# EAGLE library part WEMOS-D1-MINI (library vinorodrigues-dev-brds)
WEMOS D1 mini: Mini Wi-Fi Board based on ESP-8266 device More details can be found here: https://www.wemos.cc/product/d1-mini.html
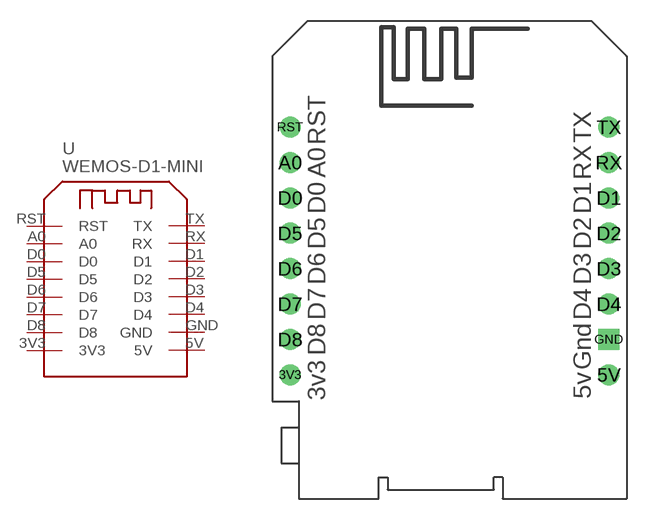
[diagram p2: symbol with the pads of WEMOS-D1-MINI; footprint WEMOS-D1-MINI]

Designator prefix -

## WEMOS-D1-MINI  [WEMOS-D1-MINI]
3V3  3V3  pwr
5V  5V  pwr
A0  A0
D0  D0
D1  D1
D2  D2
D3  D3
D4  D4
D5  D5
D6  D6
D7  D7
D8  D8
GND  GND  pwr
RST  RST
RX  RX
TX  TX

## Footprint WEMOS-D1-MINI (pad centres in mm)
WEMOS D1 mini: Mini Wi-Fi Board based on ESP-8266 device
drill 1: 3V3 -11.43,-8.89; 5V 11.43,-8.89; A0 -11.43,6.35; D0 -11.43,3.81; D1 11.43,3.81; D2 11.43,1.27; D3 11.43,-1.27; D4 11.43,-3.81; D5 -11.43,1.27; D6 -11.43,-1.27; D7 -11.43,-3.81; D8 -11.43,-6.35; RST -11.43,8.89; RX 11.43,6.35; TX 11.43,8.89
drill 1 square: GND 11.43,-6.35